# Altium schematic symbol library LT5337.Schlib: 1 symbol
Pins are listed as number, name and electrical type; pins without a type are passive.

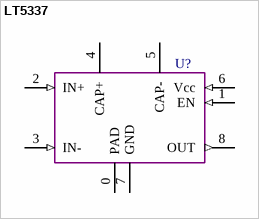
[diagram p0: symbol LT5337]

## LT5337
designator U?  (value not drawn)
pins: 0 PAD (power), 1 EN (in), 2 IN+ (in), 3 IN- (in), 4 CAP+, 5 CAP-, 6 Vcc (in), 7 GND (power), 8 OUT (out)